# EAGLE library part LTC2225 (library Cynara-IntegratedCircuits)
ADC 12bit 10MSPS LTC2225
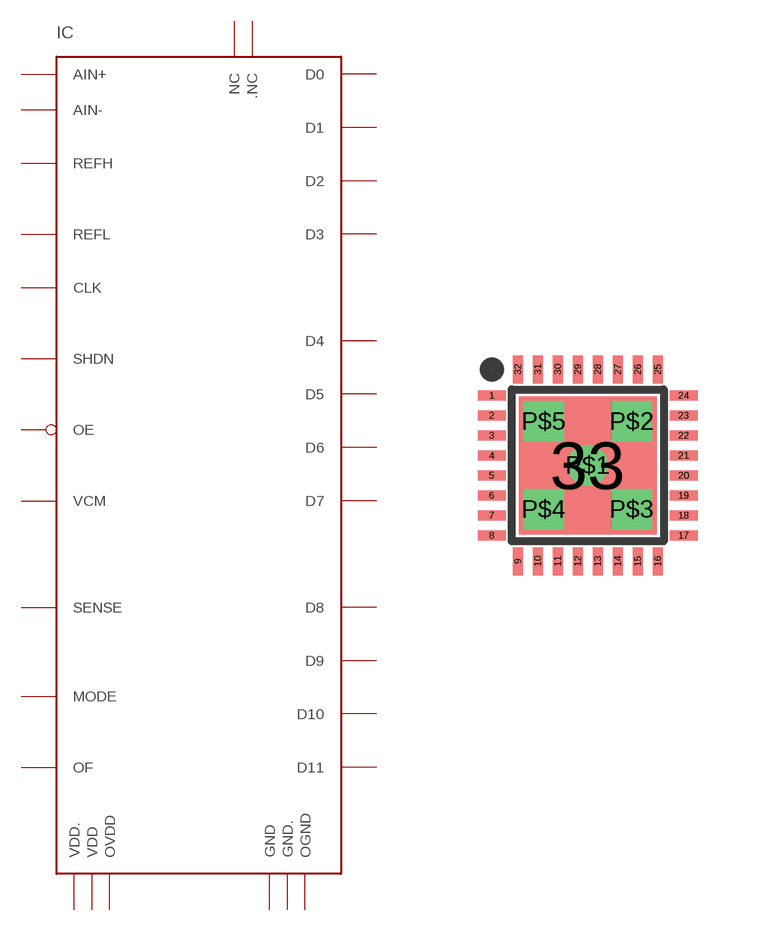
[diagram p5: symbol with the pads of 32QFN(5MM*5MM); footprint 32QFN(5MM*5MM)]

Designator prefix IC

## LTC2225-32QFN (MANUFACTURER: Linear Technology; MANUFACTURERPARTNO: LTC2225; VALUE: LTC2225)  [32QFN(5MM*5MM)]
1  AIN+
2  AIN-
3  REFH
4  REFH
5  REFL
6  REFL
7  VDD.
8  GND.
9  CLK
10  SHDN
11  OE
12  .NC  nc
13  NC  nc
14  D0
15  D1
16  D2
17  D3
18  D4
19  D5
20  OGND
21  OVDD
22  D6
23  D7
24  D8
25  D9
26  D10
27  D11
28  OF
29  MODE
30  SENSE
31  VCM
32  VDD
33  GND
P$1  GND
P$2  GND
P$3  GND
P$4  GND
P$5  GND

## Footprint 32QFN(5MM*5MM) (pad centres in mm)
QFN32 5 mm x 5 mm
smd 0.7 x 0.25: 1 -2.4,1.75; 2 -2.4,1.25; 3 -2.4,0.75; 4 -2.4,0.25; 5 -2.4,-0.25; 6 -2.4,-0.75; 7 -2.4,-1.25; 8 -2.4,-1.75; 17 2.4,-1.75; 18 2.4,-1.25; 19 2.4,-0.75; 20 2.4,-0.25; 21 2.4,0.25; 22 2.4,0.75; 23 2.4,1.25; 24 2.4,1.75
smd 0.25 x 0.7: 9 -1.75,-2.4; 10 -1.25,-2.4; 11 -0.75,-2.4; 12 -0.25,-2.4; 13 0.25,-2.4; 14 0.75,-2.4; 15 1.25,-2.4; 16 1.75,-2.4; 25 1.75,2.4; 26 1.25,2.4; 27 0.75,2.4; 28 0.25,2.4; 29 -0.25,2.4; 30 -0.75,2.4; 31 -1.25,2.4; 32 -1.75,2.4
smd 3.45 x 3.45: 33 0,0
drill 0.5 pad 0.9: P$1 0,0
drill 0.5 square: P$2 1.1,1.1; P$3 1.1,-1.1; P$4 -1.1,-1.1; P$5 -1.1,1.1